# Altium schematic symbol library SnapEDAsch.SchLib: 1 symbol
Pins are listed as number, name and electrical type; pins without a type are passive.

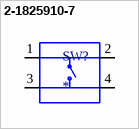
[diagram p0: symbol 2-1825910-7]

## 2-1825910-7
designator SW?
Switch Tactile OFF _ON_ SPST Extended Round Button PC Pins 0.05A 24VDC 100000Cycle 1.57N Thru-Hole Loose Piece; MF: TE Connectivity; MP: 2-1825910-7; Availability: Unavailable; EU_RoHS_Compliance: Compliant; Price: None; Package: None; Value: *; SnapEDA_Link: https://www.snapeda.com/parts/2-1825910-7/TE%20Connectivity%20ALCOSWITCH%20Switches/view-part/498898/?ref=snap; TE_purchase_URL: https://www.te.com/usa-en/product-2-1825910-7.html?te_bu=Cor&te_type=disp&te_campaign=seda_glo_cor-seda-global-disp-prtnr-fy19-seda-model-bom-cta_sma-317_1&elqCampaignId=32493
footprint SW_2-1825910-7
pins: 1, 2, 3, 4